# Altium integrated library MSP432P401RIPZ.IntLib: 1 symbol
Pins are listed as number, name and electrical type; pins without a type are passive.

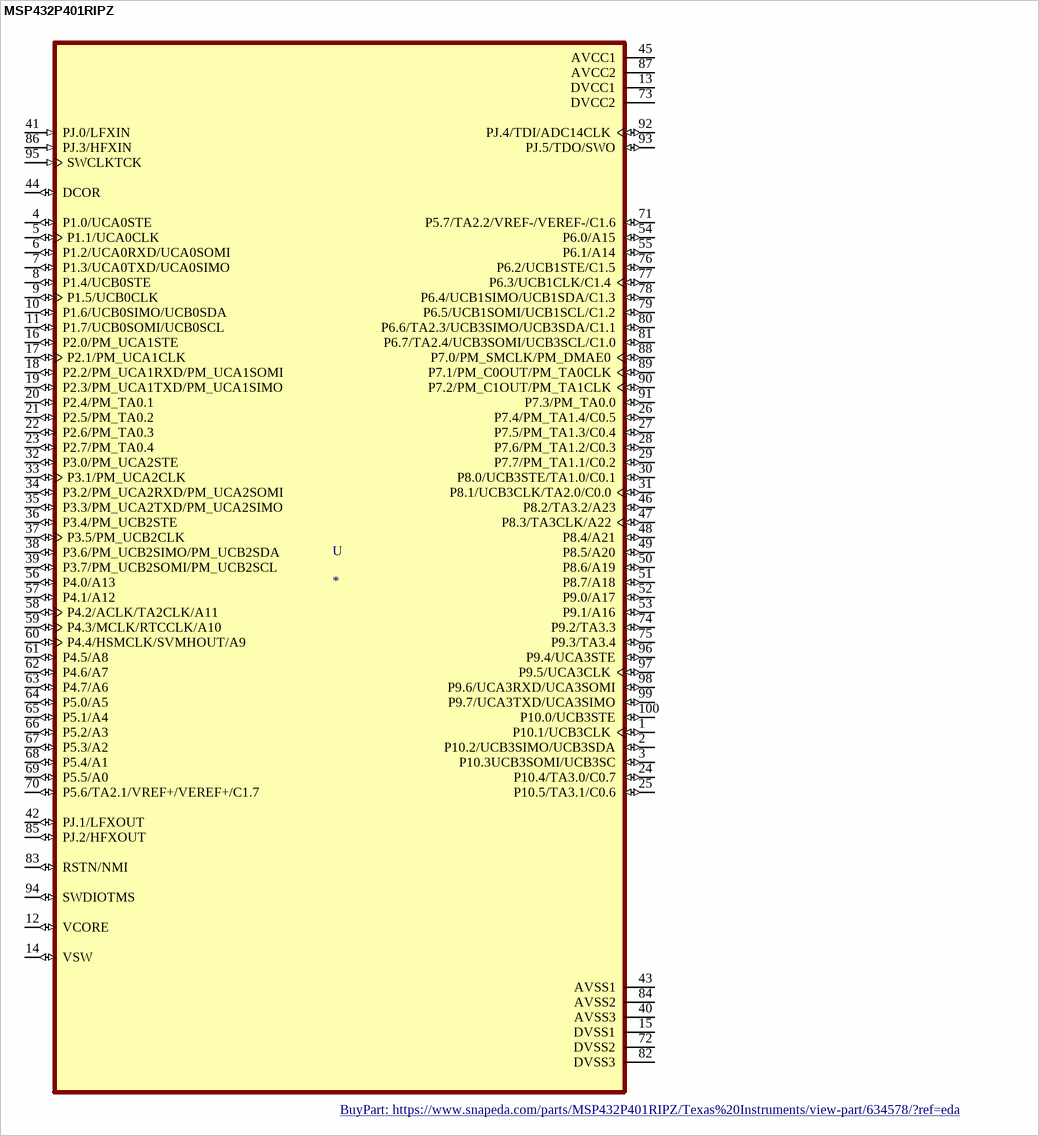
[diagram p0: symbol MSP432P401RIPZ]

## MSP432P401RIPZ
designator U
SimpleLink ultra-low-power 32-bit Arm Cortex-M4F MCU With Precision ADC, 256KB Flash and 64KB RAM 100-LQFP -40 to 85; MF: Texas Instruments; MP: MSP432P401RIPZ; DigiKey-Purchase-URL: https://snapeda.com/shop?store=DigiKey&id=634578; Texas_Instruments-Purchase-URL: https://snapeda.com/shop?store=Texas+Instruments&id=634578; Value: *; Availability: Warning; Price: None; Arrow_Electronics-Purchase-URL: https://snapeda.com/shop?store=Arrow+Electronics&id=634578; Package: LQFP-100 Texas Instruments; Mouser-Purchase-URL: https://snapeda.com/shop?store=Mouser&id=634578; SnapEDA_Link: https://www.snapeda.com/parts/MSP432P401RIPZ/Texas%20Instruments/view-part/634578/?ref=snap; BuyPart: https://www.snapeda.com/parts/MSP432P401RIPZ/Texas%20Instruments/view-part/634578/?ref=eda
footprint QFP50P1600X1600X160-100N
pins: 1 P10.1/UCB3CLK (io), 2 P10.2/UCB3SIMO/UCB3SDA (io), 3 P10.3UCB3SOMI/UCB3SC (io), 4 P1.0/UCA0STE (io), 5 P1.1/UCA0CLK (io), 6 P1.2/UCA0RXD/UCA0SOMI (io), 7 P1.3/UCA0TXD/UCA0SIMO (io), 8 P1.4/UCB0STE (io), 9 P1.5/UCB0CLK (io), 10 P1.6/UCB0SIMO/UCB0SDA (io), 11 P1.7/UCB0SOMI/UCB0SCL (io), 12 VCORE (io), 13 DVCC1 (power), 14 VSW (io), 15 DVSS1 (power), 16 P2.0/PM_UCA1STE (io), 17 P2.1/PM_UCA1CLK (io), 18 P2.2/PM_UCA1RXD/PM_UCA1SOMI (io), 19 P2.3/PM_UCA1TXD/PM_UCA1SIMO (io), 20 P2.4/PM_TA0.1 (io), 21 P2.5/PM_TA0.2 (io), 22 P2.6/PM_TA0.3 (io), 23 P2.7/PM_TA0.4 (io), 24 P10.4/TA3.0/C0.7 (io), 25 P10.5/TA3.1/C0.6 (io), 26 P7.4/PM_TA1.4/C0.5 (io), 27 P7.5/PM_TA1.3/C0.4 (io), 28 P7.6/PM_TA1.2/C0.3 (io), 29 P7.7/PM_TA1.1/C0.2 (io), 30 P8.0/UCB3STE/TA1.0/C0.1 (io), 31 P8.1/UCB3CLK/TA2.0/C0.0 (io), 32 P3.0/PM_UCA2STE (io), 33 P3.1/PM_UCA2CLK (io), 34 P3.2/PM_UCA2RXD/PM_UCA2SOMI (io), 35 P3.3/PM_UCA2TXD/PM_UCA2SIMO (io), 36 P3.4/PM_UCB2STE (io), 37 P3.5/PM_UCB2CLK (io), 38 P3.6/PM_UCB2SIMO/PM_UCB2SDA (io), 39 P3.7/PM_UCB2SOMI/PM_UCB2SCL (io), 40 AVSS3 (power), 41 PJ.0/LFXIN (in), 42 PJ.1/LFXOUT (io), 43 AVSS1 (power), 44 DCOR (io), 45 AVCC1 (power), 46 P8.2/TA3.2/A23 (io), 47 P8.3/TA3CLK/A22 (io), 48 P8.4/A21 (io), 49 P8.5/A20 (io), 50 P8.6/A19 (io), 51 P8.7/A18 (io), 52 P9.0/A17 (io), 53 P9.1/A16 (io), 54 P6.0/A15 (io), 55 P6.1/A14 (io), 56 P4.0/A13 (io), 57 P4.1/A12 (io), 58 P4.2/ACLK/TA2CLK/A11 (io), 59 P4.3/MCLK/RTCCLK/A10 (io), 60 P4.4/HSMCLK/SVMHOUT/A9 (io), 61 P4.5/A8 (io), 62 P4.6/A7 (io), 63 P4.7/A6 (io), 64 P5.0/A5 (io), 65 P5.1/A4 (io), 66 P5.2/A3 (io), 67 P5.3/A2 (io), 68 P5.4/A1 (io), 69 P5.5/A0 (io), 70 P5.6/TA2.1/VREF+/VEREF+/C1.7 (io), 71 P5.7/TA2.2/VREF-/VEREF-/C1.6 (io), 72 DVSS2 (power), 73 DVCC2 (power), 74 P9.2/TA3.3 (io), 75 P9.3/TA3.4 (io), 76 P6.2/UCB1STE/C1.5 (io), 77 P6.3/UCB1CLK/C1.4 (io), 78 P6.4/UCB1SIMO/UCB1SDA/C1.3 (io), 79 P6.5/UCB1SOMI/UCB1SCL/C1.2 (io), 80 P6.6/TA2.3/UCB3SIMO/UCB3SDA/C1.1 (io), 81 P6.7/TA2.4/UCB3SOMI/UCB3SCL/C1.0 (io), 82 DVSS3 (power), 83 RSTN/NMI (io), 84 AVSS2 (power), 85 PJ.2/HFXOUT (io), 86 PJ.3/HFXIN (in), 87 AVCC2 (power), 88 P7.0/PM_SMCLK/PM_DMAE0 (io), 89 P7.1/PM_C0OUT/PM_TA0CLK (io), 90 P7.2/PM_C1OUT/PM_TA1CLK (io), 91 P7.3/PM_TA0.0 (io), 92 PJ.4/TDI/ADC14CLK (io), 93 PJ.5/TDO/SWO (io), 94 SWDIOTMS (io), 95 SWCLKTCK (in), 96 P9.4/UCA3STE (io), 97 P9.5/UCA3CLK (io), 98 P9.6/UCA3RXD/UCA3SOMI (io), 99 P9.7/UCA3TXD/UCA3SIMO (io), 100 P10.0/UCB3STE (io)